# Altium footprint library Diodo.PcbLib: 39 footprints (part 3 of 3)
Each footprint in its own frame and in the unit in brackets; x right, y up, seen from the top. Pads: shape width x height; smd on the part's side, far side on the other; paste and mask are expansions set on the pad; w line width, h text height; cw(c..) or ccw(c..) is an arc to the next point about the centre after c.
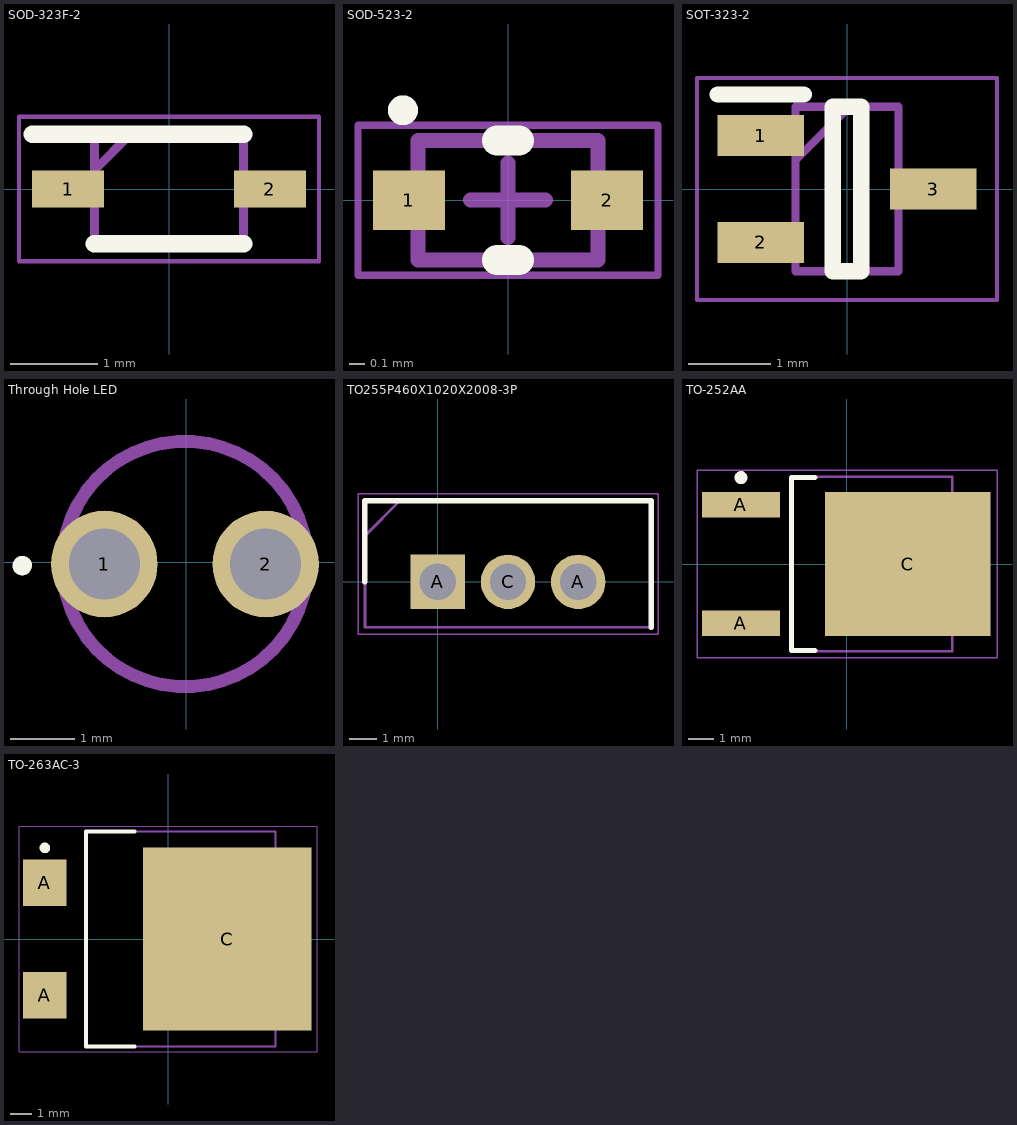
[diagram p2: the footprints below, top view; thin cyan lines are the x and y axes]

## SOD-323F-2 [mm]
pads (2):
  rect 0.82x0.42 smd: 1(-1.15,0) 2(1.15,0)
Top Overlay:
  lines w0.2: -1.56,0.625 0.85,0.625 ; -0.85,-0.625 0.85,-0.625
Mechanical 13:
  lines w0.1: -0.85,0.215 -0.44,0.625 ; -0.85,-0.625 0.85,-0.625 0.85,0.625 -0.85,0.625 -0.85,-0.625
Mechanical 15:
  lines w0.05: -1.71,-0.825 1.71,-0.825 1.71,0.825 -1.71,0.825 -1.71,-0.825
3D body "1N4148WS.stp": height 0.9, standoff 0, extent -1.25,-0.625 1.25,0.625

## SOD-523-2 [mm]
pads (2):
  rect 0.48x0.4 smd: 1(-0.66,0) 2(0.66,0)
Top Overlay:
  circle w0.1: c-0.7,0.6 r0.05
  lines w0.2: -0.074,-0.4 0.074,-0.4 ; -0.074,0.4 0.074,0.4
Mechanical 13:
  lines w0.1: -0.6,-0.4 -0.6,0.4 0.6,0.4 0.6,-0.4 -0.6,-0.4
Mechanical 15:
  lines w0.05: -1,-0.5 1,-0.5 1,0.5 -1,0.5 -1,-0.5
  lines w0.1: -0.25,0 0.25,0 ; 0,-0.25 0,0.25
3D body: height 0.7, standoff 0, extent -0.6,-0.4 0.6,0.4

## SOT-323-2 [mm]
pads (3):
  rect 1.05x0.5 smd: 1(-1.05,0.65) 2(-1.05,-0.65) 3(1.05,0)
Top Overlay:
  lines w0.2: -1.575,1.15 -0.525,1.15 ; -0.175,-1 0.175,-1 0.175,1 -0.175,1 -0.175,-1
Mechanical 13:
  lines w0.1: -0.625,0.35 0.025,1 ; -0.625,-1 0.625,-1 0.625,1 -0.625,1 -0.625,-1
Mechanical 15:
  lines w0.05: -1.825,-1.35 1.825,-1.35 1.825,1.35 -1.825,1.35 -1.825,-1.35
3D body "BAT46AWFILM.stp": height 1.1, standoff 0, extent -1.05,-1 1.05,1

## Through Hole LED [mm] "Through Hole LED"
pads (2):
  round 1.65 hole 1.1: 1(-1.27,-0.025) 2(1.23,-0.025)
Top Overlay:
  lines w0.2: -2.591,-0.051 ccw(c-2.541,-0.051) -2.491,-0.051 ; -2.589,-0.051 cw(c-2.539,-0.051) -2.489,-0.051
Mechanical 15:
  lines w0.2: -1.92,-0.025 cw(c-0.02,-0.025) 1.88,-0.025 cw(c-0.02,-0.025) -1.92,-0.025
3D body "CircuitWorks-GREENLED.step": height 5.38, standoff -3.17, extent -2.033,-2.019 1.953,1.473

## TO255P460X1020X2008-3P [mm]
pads (3):
  rect 1.98x1.98 hole 1.32: A(0,0)
  round 1.98 hole 1.32: A(5.1,0) C(2.55,0)
Top Overlay:
  lines w0.2: -2.65,0 -2.65,2.95 7.75,2.95 7.75,-1.65
Mechanical 13:
  lines w0.1: -2.65,1.675 -1.375,2.95 ; -2.65,-1.65 7.75,-1.65 7.75,2.95 -2.65,2.95 -2.65,-1.65
Mechanical 15:
  lines w0.05: -2.9,-1.9 8,-1.9 8,3.2 -2.9,3.2 -2.9,-1.9
3D body "STPS30M60ST.stp": height 19.21, standoff -18.2, extent -2.55,-1.65 7.65,2.95

## TO-252AA [mm]
height 2.39
pads (3):
  rect 3x1 smd: A(-4.1,-2.29) A(-4.1,2.29)
  rect 6.4x5.55 smd: C(2.35,0)
Top Overlay:
  circle w0.25: c-4.1,3.34 r0.125
  lines w0.2: -1.25,-3.35 -2.15,-3.35 -2.15,3.35 -1.25,3.35
Mechanical 13:
  lines w0.1: -2.15,-3.375 4.07,-3.375 4.07,3.375 -2.15,3.375 -2.15,-3.375
Mechanical 15:
  lines w0.05: -5.8,-3.625 5.8,-3.625 5.8,3.625 -5.8,3.625 -5.8,-3.625
  lines w0.1: -0.5,0 0.5,0 ; 0,-0.5 0,0.5
3D body "50WQ10FN.step": height 2.85, standoff 0, extent -4.39,-3.375 5.515,3.375

## TO-263AC-3 [mm] "TO, 3-Pads, Body 7,60x8,46mm (max), IPC Medium Density"
height 1.8
pads (3):
  rect 2.05x2.2 smd: A(-5.85,-2.67) A(-5.85,2.67)
  rect 8x8.7 smd: C(2.8,0)
Top Overlay:
  circle w0.25: c-5.85,4.32 r0.125
  lines w0.2: -1.6,-5.1 -3.9,-5.1 -3.9,5.1 -1.6,5.1
Mechanical 13:
  lines w0.1: -3.9,-5.1 5.09,-5.1 5.09,5.1 -3.9,5.1 -3.9,-5.1
Mechanical 15:
  lines w0.05: -7.075,-5.35 7.075,-5.35 7.075,5.35 -7.075,5.35 -7.075,-5.35
  lines w0.1: -0.5,0 0.5,0 ; 0,-0.5 0,0.5
3D body "DPAK267P1263X180-3N.step": height 1.8, standoff 0, extent -4.735,-5.1 7.895,5.1